# Altium schematic symbol library Lib_001_rus.SchLib: 9 symbols
Pins are listed as number, name and electrical type; pins without a type are passive.

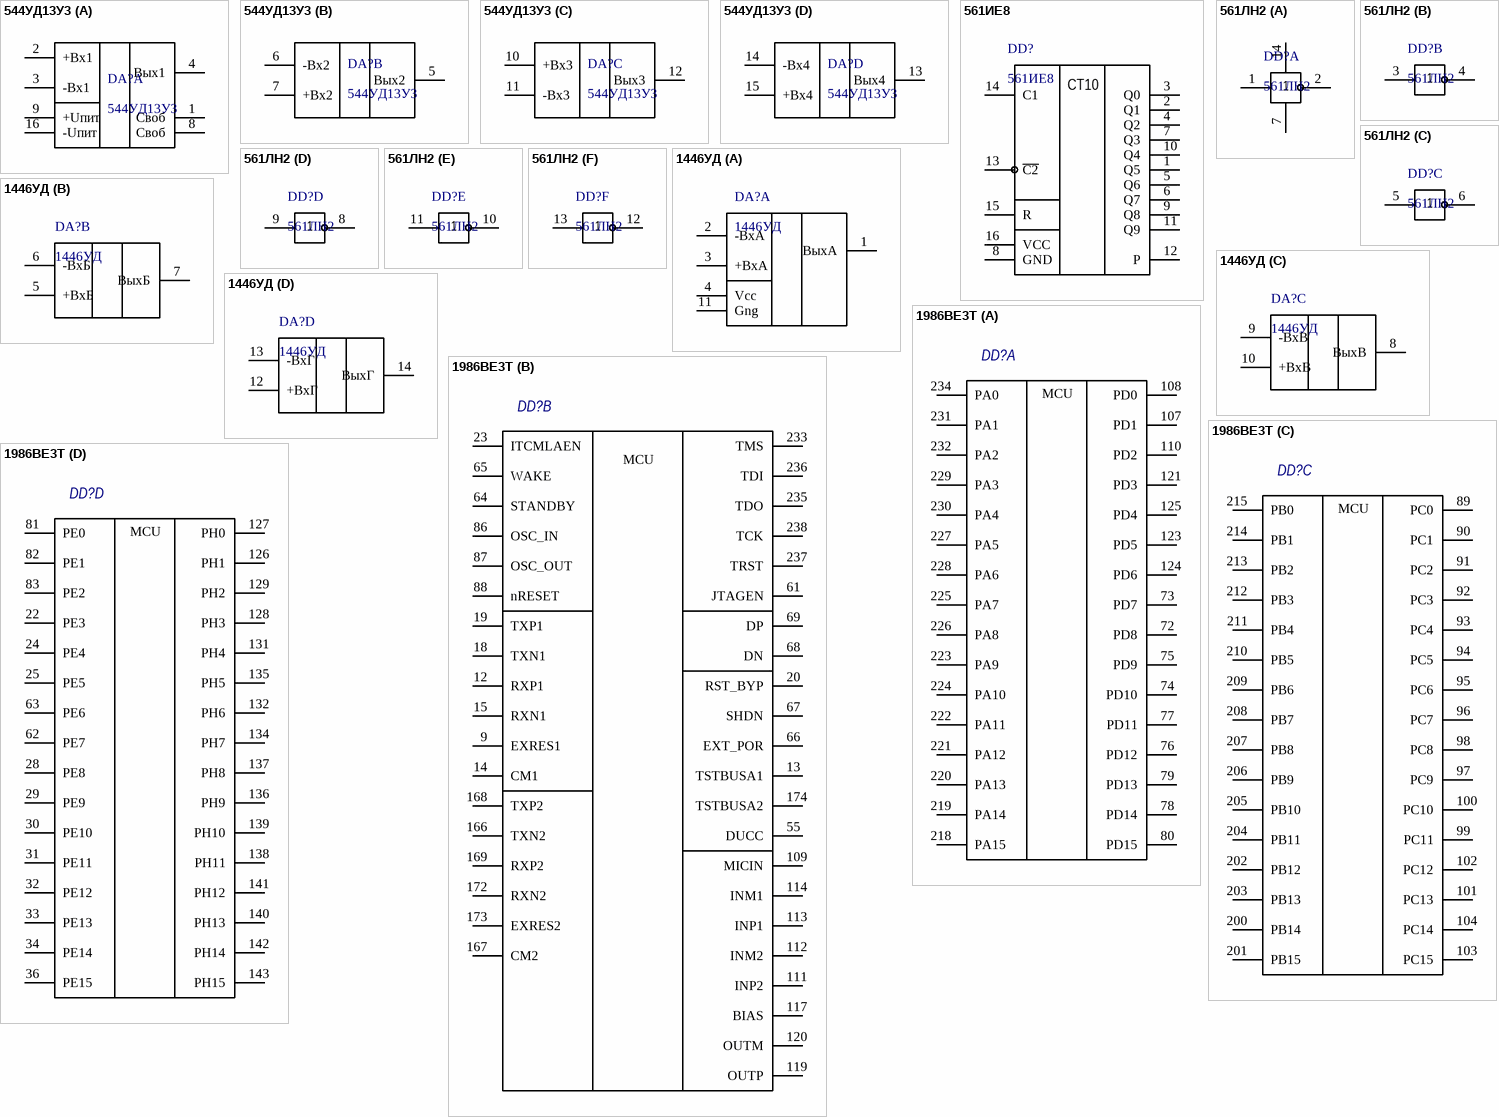
[diagram p0: symbols 544УД13У3 to 1986ВЕ3Т]

## 544УД13У3
designator DA?
Микросхема; value: 544УД13У3
footprint Н04.16-1В
part A pins: 1 Своб, 2 +Вх1, 3 -Вх1, 4 Вых1, 8 Своб, 9 +Uпит, 16 -Uпит
part B pins: 5 Вых2, 6 -Вх2, 7 +Вх2
part C pins: 10 +Вх3, 11 -Вх3, 12 Вых3
part D pins: 13 Вых4, 14 -Вх4, 15 +Вх4

## 561ИЕ8
designator DD?
Микросхема; value: 561ИЕ8; rus_value: 561ИЕ8
footprint 238.16-1
pins: 1 Q5, 2 Q1, 3 Q0, 4 Q2, 5 Q6, 6 Q7, 7 Q3, 8 GND, 9 Q8, 10 Q4, 11 Q9, 12 P, 13 ~{C2}, 14 C1, 15 R, 16 VCC
text: CT10

## 561ЛН2
designator DD?
Микросхема; value: 561ЛН2; rus_value: 561ЛН2
footprint 201.14-1
part A pins: 1, 2, 7, 14
part B pins: 3, 4
part C pins: 5, 6
part D pins: 8, 9
part E pins: 10, 11
part F pins: 12, 13

## 1446УД
designator DA?
Микросхема; value: 1446УД
footprint SOIC14
part A pins: 1 ВыхА, 2 -ВхА, 3 +ВхА, 4 Vcc, 11 Gng
part B pins: 5 +ВхБ, 6 -ВхБ, 7 ВыхБ
part C pins: 8 ВыхВ, 9 -ВхВ, 10 +ВхВ
part D pins: 12 +ВхГ, 13 -ВхГ, 14 ВыхГ

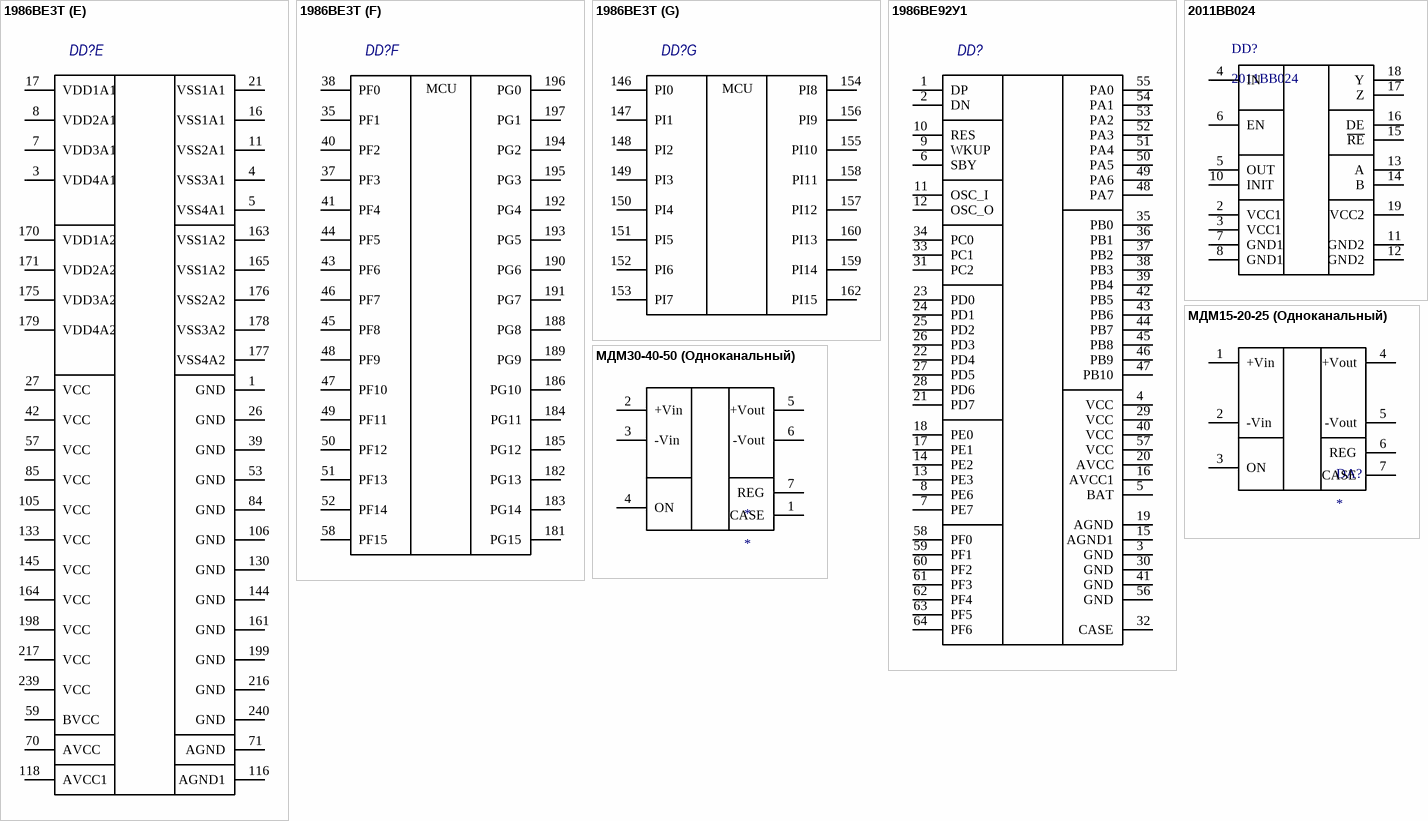
[diagram p1: symbols 1986ВЕ3Т to МДМ30-40-50 (Одноканальный)]

## 1986ВЕ3Т
designator DD?  (value not drawn)
Микросхема; ValueManufacturer: "Миландр"; rus_value: 1986ВЕ3Т (Формованные выводы!!!!); value: 1986ВЕ3Т; ValueType: Микросхема
footprint 4245.240-5
part A pins: 72 PD8, 73 PD7, 74 PD10, 75 PD9, 76 PD12, 77 PD11, 78 PD14, 79 PD13, 80 PD15, 107 PD1, 108 PD0, 110 PD2, 121 PD3, 123 PD5, 124 PD6, 125 PD4, 218 PA15, 219 PA14, 220 PA13, 221 PA12, 222 PA11, 223 PA9, 224 PA10, 225 PA7, 226 PA8, 227 PA5, 228 PA6, 229 PA3, 230 PA4, 231 PA1, 232 PA2, 234 PA0
part B pins: 9 EXRES1, 12 RXP1, 13 TSTBUSA1, 14 CM1, 15 RXN1, 18 TXN1, 19 TXP1, 20 RST_BYP, 23 ITCMLAEN, 55 DUCC, 61 JTAGEN, 64 STANDBY, 65 WAKE, 66 EXT_POR, 67 SHDN, 68 DN, 69 DP, 86 OSC_IN, 87 OSC_OUT, 88 nRESET, 109 MICIN, 111 INP2, 112 INM2, 113 INP1, 114 INM1, 117 BIAS, 119 OUTP, 120 OUTM, 166 TXN2, 167 CM2, 168 TXP2, 169 RXP2, 172 RXN2, 173 EXRES2, 174 TSTBUSA2, 233 TMS, 235 TDO, 236 TDI, 237 TRST, 238 TCK
part C pins: 89 PC0, 90 PC1, 91 PC2, 92 PC3, 93 PC4, 94 PC5, 95 PC6, 96 PC7, 97 PC9, 98 PC8, 99 PC11, 100 PC10, 101 PC13, 102 PC12, 103 PC15, 104 PC14, 200 PB14, 201 PB15, 202 PB12, 203 PB13, 204 PB11, 205 PB10, 206 PB9, 207 PB8, 208 PB7, 209 PB6, 210 PB5, 211 PB4, 212 PB3, 213 PB2, 214 PB1, 215 PB0
part D pins: 22 PE3, 24 PE4, 25 PE5, 28 PE8, 29 PE9, 30 PE10, 31 PE11, 32 PE12, 33 PE13, 34 PE14, 36 PE15, 62 PE7, 63 PE6, 81 PE0, 82 PE1, 83 PE2, 126 PH1, 127 PH0, 128 PH3, 129 PH2, 131 PH4, 132 PH6, 134 PH7, 135 PH5, 136 PH9, 137 PH8, 138 PH11, 139 PH10, 140 PH13, 141 PH12, 142 PH14, 143 PH15
part E pins: 1 GND, 3 VDD4A1, 4 VSS3A1, 5 VSS4A1, 7 VDD3A1, 8 VDD2A1, 11 VSS2A1, 16 VSS1A1, 17 VDD1A1, 21 VSS1A1, 26 GND, 27 VCC, 39 GND, 42 VCC, 53 GND, 57 VCC, 59 BVCC, 70 AVCC, 71 AGND, 84 GND, 85 VCC, 105 VCC, 106 GND, 116 AGND1, 118 AVCC1, 130 GND, 133 VCC, 144 GND, 145 VCC, 161 GND, 163 VSS1A2, 164 VCC, 165 VSS1A2, 170 VDD1A2, 171 VDD2A2, 175 VDD3A2, 176 VSS2A2, 177 VSS4A2, 178 VSS3A2, 179 VDD4A2, 198 VCC, 199 GND, 216 GND, 217 VCC, 239 VCC, 240 GND
part F pins: 35 PF1, 37 PF3, 38 PF0, 40 PF2, 41 PF4, 43 PF6, 44 PF5, 45 PF8, 46 PF7, 47 PF10, 48 PF9, 49 PF11, 50 PF12, 51 PF13, 52 PF14, 58 PF15, 181 PG15, 182 PG13, 183 PG14, 184 PG11, 185 PG12, 186 PG10, 188 PG8, 189 PG9, 190 PG6, 191 PG7, 192 PG4, 193 PG5, 194 PG2, 195 PG3, 196 PG0, 197 PG1
part G pins: 146 PI0, 147 PI1, 148 PI2, 149 PI3, 150 PI4, 151 PI5, 152 PI6, 153 PI7, 154 PI8, 155 PI10, 156 PI9, 157 PI12, 158 PI11, 159 PI14, 160 PI13, 162 PI15
part A text: MCU
part B text: MCU
part C text: MCU
part D text: MCU
part F text: MCU
part G text: MCU

## 1986ВЕ92У1
designator DD?  (value not drawn)
Микросхема; ValueManufacturer: "Миландр"; value: 1986ВЕ92У1; ValueType: Микросхема; rus_value: 1986ВЕ92У1
footprint МК 5153.64-2
pins: 1 DP, 2 DN, 3 GND, 4 VCC, 5 BAT, 6 SBY, 7 PE7, 8 PE6, 9 WKUP, 10 RES, 11 OSC_I, 12 OSC_O, 13 PE3, 14 PE2, 15 AGND1, 16 AVCC1, 17 PE1, 18 PE0, 19 AGND, 20 AVCC, 21 PD7, 22 PD4, 23 PD0, 24 PD1, 25 PD2, 26 PD3, 27 PD5, 28 PD6, 29 VCC, 30 GND, 31 PC2, 32 CASE, 33 PC1, 34 PC0, 35 PB0, 36 PB1, 37 PB2, 38 PB3, 39 PB4, 40 VCC, 41 GND, 42 PB5, 43 PB6, 44 PB7, 45 PB8, 46 PB9, 47 PB10, 48 PA7, 49 PA6, 50 PA5, 51 PA4, 52 PA3, 53 PA2, 54 PA1, 55 PA0, 56 GND, 57 VCC, 58 PF0, 59 PF1, 60 PF2, 61 PF3, 62 PF4, 63 PF5, 64 PF6

## 2011ВВ024
designator DD?
Микросхема; value: 2011ВВ024; rus_value: 2011ВВ024
footprint 4140.20-1 (Footprint not found)
pins: 2 VCC1, 3 VCC1, 4 IN, 5 OUT, 6 EN, 7 GND1, 8 GND1, 10 INIT, 11 GND2, 12 GND2, 13 A, 14 B, 15 ~{RE}, 16 DE, 17 Z, 18 Y, 19 VCC2

## МДМ15-20-25 (Одноканальный)
designator DA?
DC/DC преобразователь; value: *; rus_value: *
pins: 1 +Vin, 2 -Vin, 3 ON, 4 +Vout, 5 -Vout, 6 REG, 7 CASE

## МДМ30-40-50 (Одноканальный)
designator *
DC/DC преобразователь
pins: 1 CASE, 2 +Vin, 3 -Vin, 4 ON, 5 +Vout, 6 -Vout, 7 REG